# Altium footprint library 428192233.PcbLib: 1 footprints
Each footprint in its own frame and in the unit in brackets; x right, y up, seen from the top. Pads: shape width x height; smd on the part's side, far side on the other; paste and mask are expansions set on the pad; w line width, h text height; cw(c..) or ccw(c..) is an arc to the next point about the centre after c.
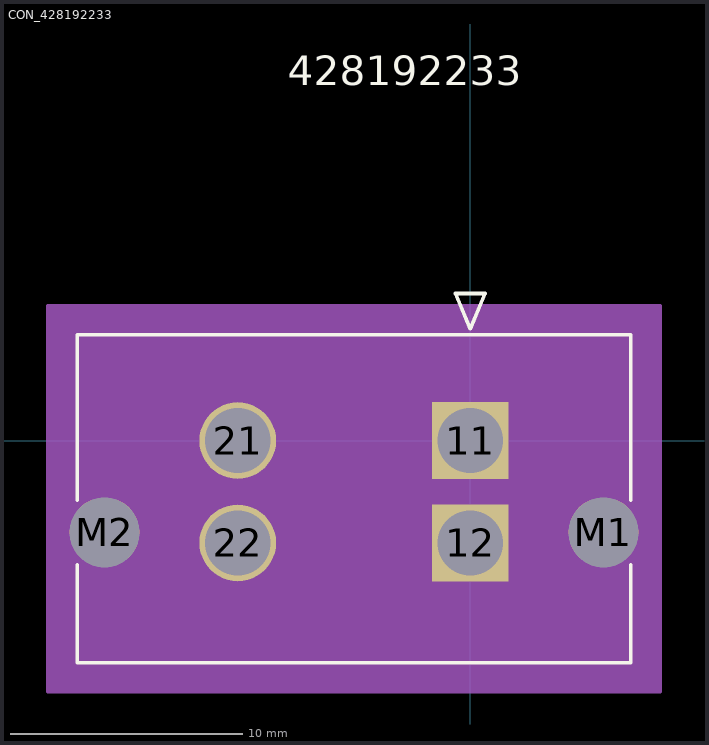
[diagram p0: the footprint, top view; thin cyan lines are the x and y axes]

## CON_428192233 [mm]
pads (6):
  rect 3.3x3.3 / inner round 1.524 / far side rect 3.3x3.3 hole 2.8 paste-1.65 mask+0.076: 11(0,0) 12(0,-4.4)
  round 3.3 / inner round 1.524 / far side round 3.3 hole 2.8 paste-1.65 mask+0.076: 21(-10,0) 22(-10,-4.4)
  round 3 / inner round 1.524 / far side round 3 hole 3 unplated paste-1.5 mask+0.076: M1(5.73,-3.95) M2(-15.73,-3.95)
Top Overlay:
  lines w0.152: -16.91,-5.332 -16.91,-9.55 6.91,-9.55 6.91,-5.332 ; -16.91,-2.568 -16.91,4.55 6.91,4.55 6.91,-2.568 ; -0.635,6.328 0.635,6.328 0,4.804 -0.635,6.328
  text "428192233" at -7.858,15.28 h1.27
Mechanical 3:
  text "PTH_DRILL_SIZE:_2.8_MM,_TOL:_+0.10/-0.10" at -17.7,-19.01 h1.27
  text "NPTH_DRILL_SIZE:_3.00_MM,_TOL:_+0.05/-0.05" at -18.335,-21.55 h1.27
Mechanical 10:
  text "PTH_DRILL_SIZE:_2.8_MM,_TOL:_+0.10/-0.10" at -17.7,-19.01 h1.27
  text "NPTH_DRILL_SIZE:_3.00_MM,_TOL:_+0.05/-0.05" at -18.335,-21.55 h1.27
Mechanical 13:
  lines w0.127: -16.91,-9.55 6.91,-9.55 6.91,4.55 -16.91,4.55 -16.91,-9.55 ; -0.635,6.328 0.635,6.328 0,4.804 -0.635,6.328
  text "428192233" at -7.858,15.28 h1.27
Mechanical 15:
  region: 8.18,5.82 -18.18,5.82 -18.18,-10.82 8.18,-10.82
  lines w0.127: -18.18,-10.82 -18.18,5.82 8.18,5.82 8.18,-10.82 -18.18,-10.82